# Altium integrated library Altium_WR-FSH (rev21a).IntLib: 15 symbols
Pins are listed as number, name and electrical type; pins without a type are passive.

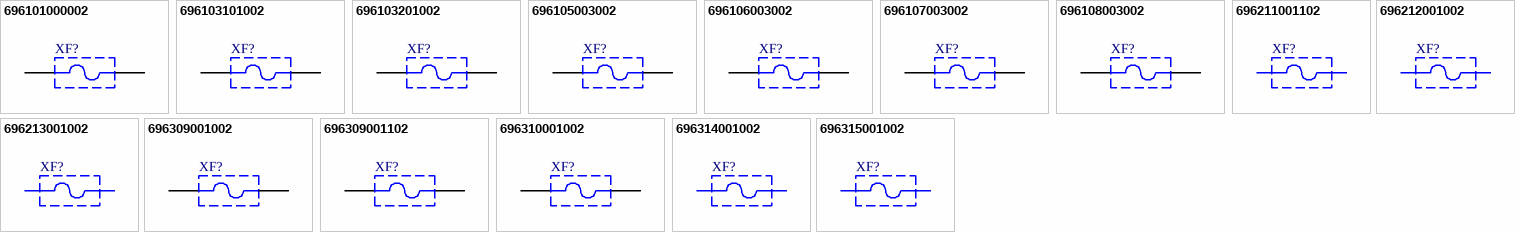
[diagram p0: symbols 696101000002 to 696315001002]

## 696101000002
designator XF?
WR-FSH Fuseholder THT Blocks PCB Clip Cover; Manufacturer Part Number: 696101000002; Manufacturer: Wurth Elektronik; Fuse Size: 5x20mm; ComponentLink1Description: Manufacturer; ComponentLink1URL: http://www.we-online.de; ComponentLink2Description: Datasheet; ComponentLink2URL: https://www.we-online.com/catalog/datasheet/696101000002.pdf; Published Date: March 2021; Operating Temperature: -30 to +120degC; Mounting Technology: THT; Packaging: Box
footprint 696101000002
pins: 1, 2

## 696103101002
designator XF?
WR-FSH Fuseholder SMT Blocks PCB Clip Cover; Manufacturer Part Number: 696103101002; Manufacturer: Wurth Elektronik; Fuse Size: 5x20mm; ComponentLink1Description: Manufacturer; ComponentLink1URL: http://www.we-online.de; ComponentLink2Description: Datasheet; ComponentLink2URL: https://www.we-online.com/catalog/datasheet/696103101002.pdf; Published Date: March 2021; Operating Temperature: -30 to +120degC; Mounting Technology: SMT; Packaging: Box
footprint 696103101002
pins: 1, 2

## 696103201002
designator XF?
WR-FSH Fuseholder THR Blocks PCB Clip Cover; Manufacturer Part Number: 696103201002; Manufacturer: Wurth Elektronik; Fuse Size: 5x20mm; ComponentLink1Description: Manufacturer; ComponentLink1URL: http://www.we-online.de; ComponentLink2Description: Datasheet; ComponentLink2URL: https://www.we-online.com/catalog/datasheet/696103201002.pdf; Published Date: March 2021; Operating Temperature: -30 to +120degC; Mounting Technology: THR; Packaging: Box
footprint 696103201002
pins: 1, 2

## 696105003002
designator XF?
WR-FSH Fuseholder THT Blocks PCB Clip Cover; Manufacturer Part Number: 696105003002; Manufacturer: Wurth Elektronik; Fuse Size: 5x20mm; ComponentLink1Description: Manufacturer; ComponentLink1URL: http://www.we-online.de; ComponentLink2Description: Datasheet; ComponentLink2URL: https://www.we-online.com/catalog/datasheet/696105003002.pdf; Published Date: March 2021; Operating Temperature: -30 to +120degC; Mounting Technology: THT; Packaging: Box
footprint 696105003002
pins: 1, 2

## 696106003002
designator XF?
WR-FSH Fuseholder THT Blocks PCB Clip Cover; Manufacturer Part Number: 696106003002; Manufacturer: Wurth Elektronik; Fuse Size: 5x20mm; ComponentLink1Description: Manufacturer; ComponentLink1URL: http://www.we-online.de; ComponentLink2Description: Datasheet; ComponentLink2URL: https://www.we-online.com/catalog/datasheet/696106003002.pdf; Published Date: March 2021; Operating Temperature: -30 to +120degC; Mounting Technology: THT; Packaging: Box
footprint 696106003002
pins: 1, 2

## 696107003002
designator XF?
WR-FSH Fuseholder THT Blocks PCB Clip Cover; Manufacturer Part Number: 696107003002; Manufacturer: Wurth Elektronik; Fuse Size: 5x20mm; ComponentLink1Description: Manufacturer; ComponentLink1URL: http://www.we-online.de; ComponentLink2Description: Datasheet; ComponentLink2URL: https://www.we-online.com/catalog/datasheet/696107003002.pdf; Published Date: March 2021; Operating Temperature: -30 to +120degC; Mounting Technology: THT; Packaging: Box
footprint 696107003002
pins: 1, 2

## 696108003002
designator XF?
WR-FSH Fuseholder THT Blocks PCB Clip Cover; Manufacturer Part Number: 696108003002; Manufacturer: Wurth Elektronik; Fuse Size: 5x20mm; ComponentLink1Description: Manufacturer; ComponentLink1URL: http://www.we-online.de; ComponentLink2Description: Datasheet; ComponentLink2URL: https://www.we-online.com/catalog/datasheet/696108003002.pdf; Published Date: March 2021; Operating Temperature: -30 to +120degC; Mounting Technology: THT; Packaging: Box
footprint 696108003002
pins: 1, 2

## 696211001102
designator XF?
WR-FSH Shocksafe Fuse Holder Screw and Lock Cover for Panel; Manufacturer Part Number: 696211001102; Manufacturer: Wurth Elektronik; Fuse Size: 5x20mm; ComponentLink1Description: Manufacturer; ComponentLink1URL: http://www.we-online.de; ComponentLink2Description: Datasheet; ComponentLink2URL: https://www.we-online.com/catalog/datasheet/696211001102.pdf; Published Date: March 2021; Operating Temperature: -30 to +120degC; Mounting Technology: -; Packaging: Box
footprint 696211001102 (SHOCKSAFE FUSEHOLDERS - PANEL - SCREW’N LOCK COVER - THT)

## 696212001002
designator XF?
WR-FSH Shocksafe Fuse Holder Screw and Lock Cover for Panel; Manufacturer Part Number: 696212001002; Manufacturer: Wurth Elektronik; Fuse Size: 5x20mm; ComponentLink1Description: Manufacturer; ComponentLink1URL: http://www.we-online.de; ComponentLink2Description: Datasheet; ComponentLink2URL: https://www.we-online.com/catalog/datasheet/696212001002.pdf; Published Date: March 2021; Operating Temperature: -30 to +120degC; Mounting Technology: -; Packaging: Box
footprint 696212001002 (SHOCKSAFE FUSEHOLDERS - PANEL - SCREW’N LOCK COVER - THT)

## 696213001002
designator XF?
WR-FSH Shocksafe Fuse Holder Screw and Lock Cover for Panel; Manufacturer Part Number: 696213001002; Manufacturer: Wurth Elektronik; Fuse Size: 5x20mm; ComponentLink1Description: Manufacturer; ComponentLink1URL: http://www.we-online.de; ComponentLink2Description: Datasheet; ComponentLink2URL: https://www.we-online.com/catalog/datasheet/696213001002.pdf; Published Date: March 2021; Operating Temperature: -30 to +120degC; Mounting Technology: -; Packaging: Box
footprint 696213001002 (SHOCKSAFE FUSEHOLDERS - PANEL - SCREW’N LOCK COVER - THT)

## 696309001002
designator XF?
WR-FSH Shocksafe Fuse Holder Turn and Lock Cover for PCB; Manufacturer Part Number: 696309001002; Manufacturer: Wurth Elektronik; Fuse Size: 5x20mm; ComponentLink1Description: Manufacturer; ComponentLink1URL: http://www.we-online.de; ComponentLink2Description: Datasheet; ComponentLink2URL: https://www.we-online.com/catalog/datasheet/696309001002.pdf; Published Date: March 2021; Operating Temperature: -30 to +120degC; Mounting Technology: THT; Packaging: Box
footprint 696309001002 (SHOCKSAFE FUSEHOLDERS - PCB - TURN’N LOCK COVER - THT)
pins: 1, 2

## 696309001102
designator XF?
WR-FSH Shocksafe Fuse Holder Turn and Lock Cover for PCB; Manufacturer Part Number: 696309001102; Manufacturer: Wurth Elektronik; Fuse Size: 5x20mm; ComponentLink1Description: Manufacturer; ComponentLink1URL: http://www.we-online.de; ComponentLink2Description: Datasheet; ComponentLink2URL: https://www.we-online.com/catalog/datasheet/696309001102.pdf; Published Date: March 2021; Operating Temperature: -30 to +120degC; Mounting Technology: THT; Packaging: Box
footprint 696309001102 (SHOCKSAFE FUSEHOLDERS - PCB - TURN’N LOCK COVER - THT - GLOW WIRE PLASTIC - WR-FSH)
pins: 1, 2

## 696310001002
designator XF?
WR-FSH Shocksafe Fuse Holder Turn and Lock Cover for PCB; Manufacturer Part Number: 696310001002; Manufacturer: Wurth Elektronik; Fuse Size: 5x20mm; ComponentLink1Description: Manufacturer; ComponentLink1URL: http://www.we-online.de; ComponentLink2Description: Datasheet; ComponentLink2URL: https://www.we-online.com/catalog/datasheet/696310001002.pdf; Published Date: March 2021; Operating Temperature: -30 to +120degC; Mounting Technology: THT; Packaging: Box
footprint 696310001002 (SHOCKSAFE FUSEHOLDERS - PCB - TURN’N LOCK COVER - THT)
pins: 1, 2

## 696314001002
designator XF?
WR-FSH Shocksafe Fuse Holder Turn and Lock Cover for Panel; Manufacturer Part Number: 696314001002; Manufacturer: Wurth Elektronik; Fuse Size: 5x20mm; ComponentLink1Description: Manufacturer; ComponentLink1URL: http://www.we-online.de; ComponentLink2Description: Datasheet; ComponentLink2URL: https://www.we-online.com/catalog/datasheet/696314001002.pdf; Published Date: March 2021; Operating Temperature: -30 to +120degC; Mounting Technology: -; Packaging: Box
footprint 696314001002 (SHOCKSAFE FUSEHOLDERS - PANEL - TURN’N LOCK COVER - THT)

## 696315001002
designator XF?
WR-FSH Shocksafe Fuse Holder Turn and Lock Cover for Panel; Manufacturer Part Number: 696315001002; Manufacturer: Wurth Elektronik; Fuse Size: 5x20mm; ComponentLink1Description: Manufacturer; ComponentLink1URL: http://www.we-online.de; ComponentLink2Description: Datasheet; ComponentLink2URL: https://www.we-online.com/catalog/datasheet/696315001002.pdf; Published Date: March 2021; Operating Temperature: -30 to +120degC; Mounting Technology: -; Packaging: Box
footprint 696315001002 (SHOCKSAFE FUSEHOLDERS - PANEL - TURN’N LOCK COVER - THT)